# Altium integrated library Silicon Labs Clocks and Oscillators.IntLib: 678 symbols (part 39 of 45)
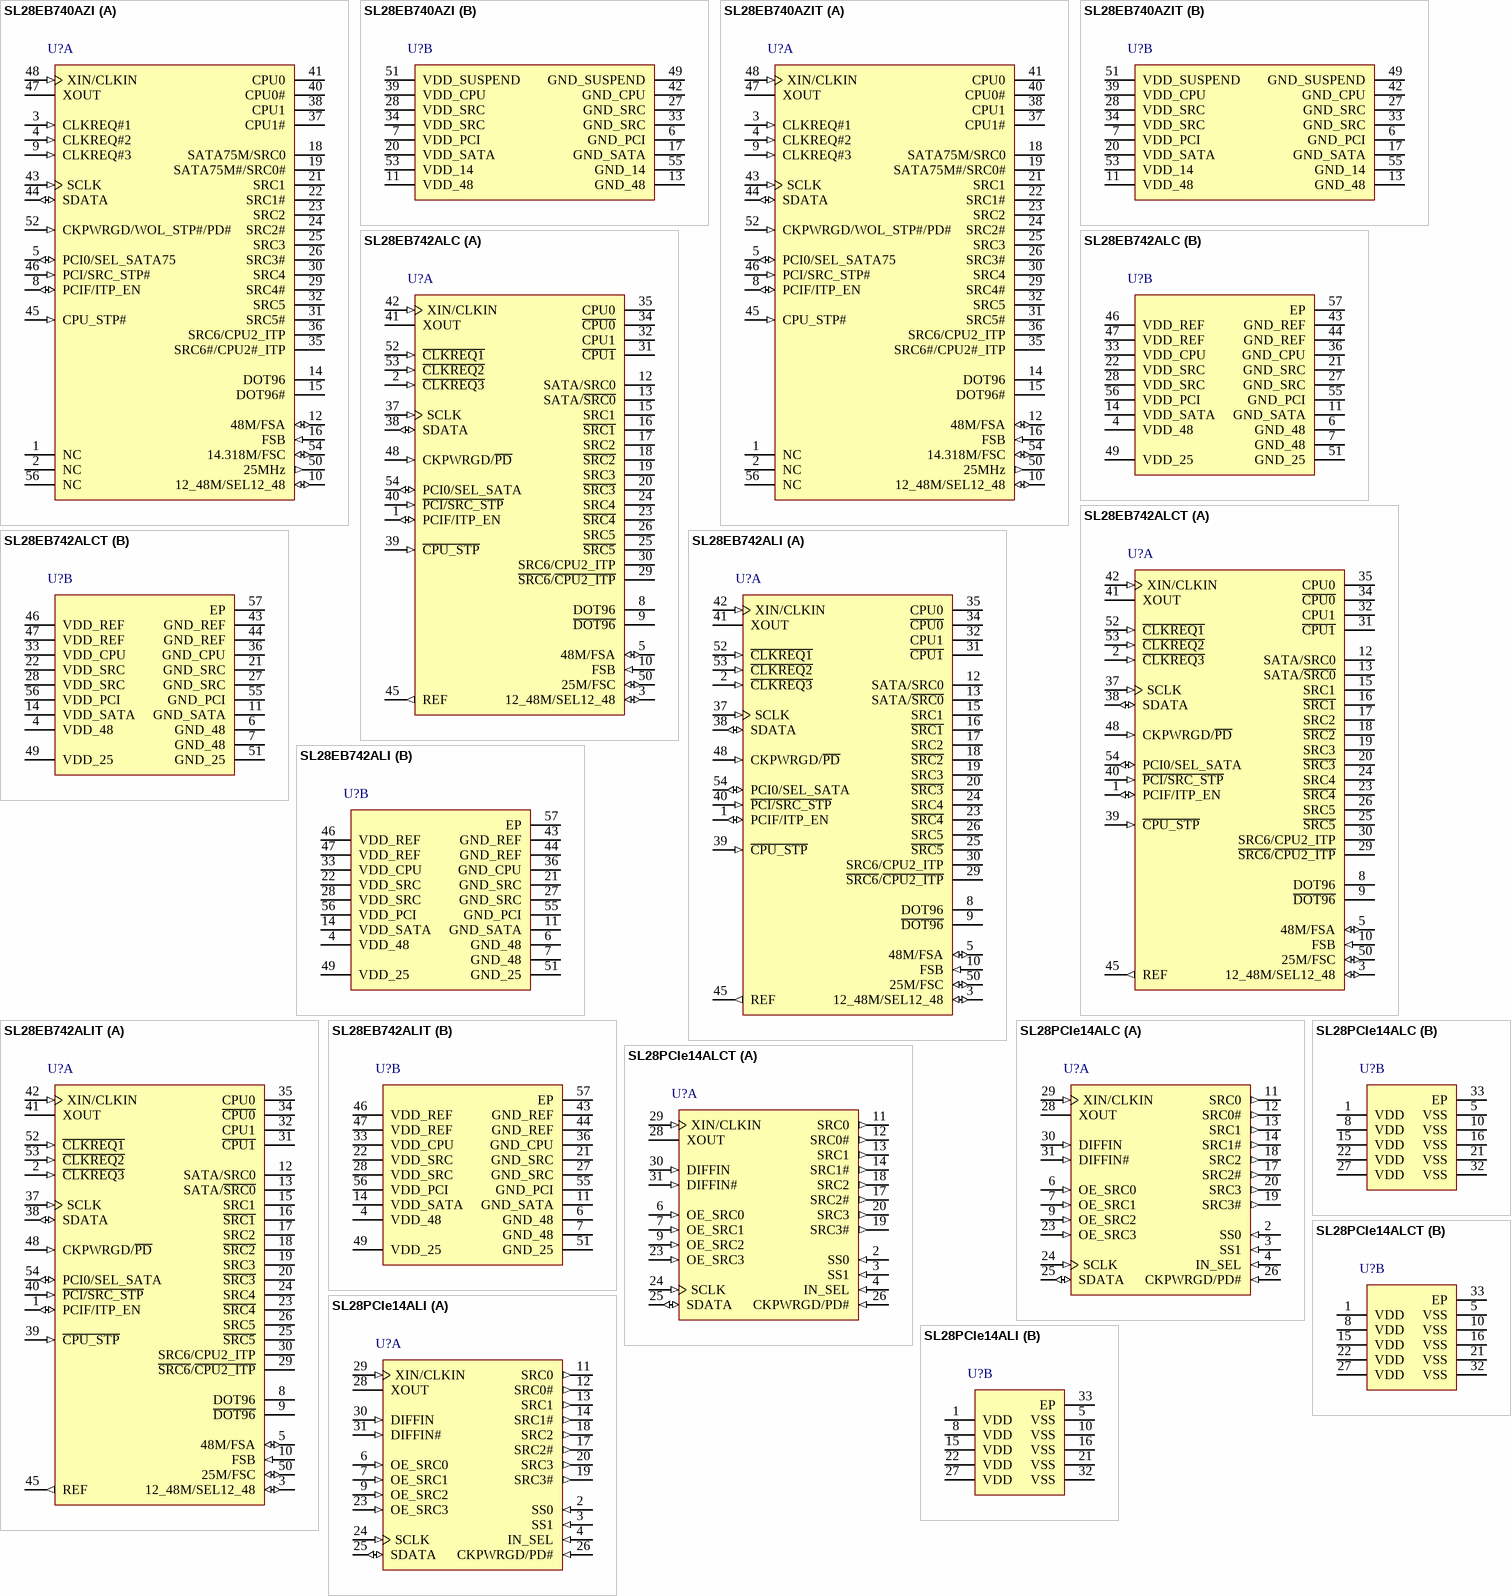
[diagram p82: symbols SL28EB740AZI to SL28PCIe14ALI]

## SL28EB742ALCT
designator U?
Intel(R) Cedarview Embedded Clock Generator, 3.3 V, 166 MHz Max Output, 0 to 70 degC, 56-pin QFN, Tape and Reel; Manufacturer: Silicon Labs; PartNumber: SL28EB742ALCT; Output Format: LVCMOS; HCSL; Output Frequency (MHz): 14.3; 33; 48; 96; 100; 133; 166; Phase Jitter (RMS): > 1 ps; Reference Inputs: 1; VDD: 3.3 V; Sub-Family: Clock Generators; DatasheetVersion: Rev. 0.1; PackageReference: QFN-56; PackageDescription: 56-Pin Quad-Flat No-Leads Package, Body 8 x 8 mm, Pitch 0.5 mm; Packing: Tape and Reel; Mounting Technology: Surface Mount; Code_JEDEC: MO-220; Code_IPC: J-STD-020; ComponentLink1Description: Manufacturer URL; ComponentLink1URL: http://www.silabs.com/; ComponentLink2Description: Datasheet; ComponentLink2URL: http://www.silabs.com/Support%20Documents/TechnicalDocs/SL28EB742.pdf; ComponentLink3Description: Package Specification; ComponentLink3URL: http://www.silabs.com/Support%20Documents/TechnicalDocs/SL28EB742.pdf
footprint SLAB-QFN-56-5900x5900TP_N (QFN, 56-Leads, Body 8x8mm, Pitch 0.5mm, Thermal Pad 5.9x5.9mm, IPC Medium Density)
footprint SLAB-QFN-56-5900x5900TP_L (QFN, 56-Leads, Body 8x8mm, Pitch 0.5mm, Thermal Pad 5.9x5.9mm, IPC High Density)
footprint SLAB-QFN-56-5900x5900TP_M (QFN, 56-Leads, Body 8x8mm, Pitch 0.5mm, Thermal Pad 5.9x5.9mm, IPC Low Density)
part A pins: 1 PCIF/ITP_EN (io) "33 MHz free running clock output/3.3 V LVTTL input to enable SRC6 or CPU2_ITP (sampled on the CKPWRGD assertion). 0 = SRC6, 1 = CPU2", 2 ~{CLKREQ3} (in) "Active low input pin enables SRC3 (internal 100 kohm pull-down).", 3 12_48M/SEL12_48 (io) "12/48 MHz Clock output/3.3 V-tolerance input for 12 MHz or 48 MHz selection (Sampled at CKPWRGD assertion) (internal 100 kohm pull-up). 0 = 48M, 1 = 12M", 5 48M/FSA (io) "Fixed 48 MHz clock output/3.3 V-tolerant input for CPU frequency selection (internal 100 kohm pull-down).", 8 DOT96 (hiz) "Fixed true 96 MHz clock output.", 9 ~{DOT96} (hiz) "Fixed complement 96 MHz clock output.", 10 FSB (in) "3.3 V-tolerant input for CPU frequency selection (internal 100 kohm pulldown).", 12 SATA/SRC0 (hiz) "100 MHz True differential serial reference clock.", 13 SATA/~{SRC0} (hiz) "100 MHz Complement differential serial reference clock.", 15 SRC1 (hiz) "100 MHz True differential serial reference clock.", 16 ~{SRC1} (hiz) "100 MHz Complement differential serial reference clock.", 17 SRC2 (hiz) "100 MHz True differential serial reference clock.", 18 ~{SRC2} (hiz) "100 MHz Complement differential serial reference clock.", 19 SRC3 (hiz) "100 MHz True differential serial reference clock.", 20 ~{SRC3} (hiz) "100 MHz Complement differential serial reference clock.", 23 ~{SRC4} (hiz) "100 MHz Complement differential serial reference clock.", 24 SRC4 (hiz) "100 MHz True differential serial reference clock.", 25 ~{SRC5} (hiz) "100 MHz Complement differential serial reference clock.", 26 SRC5 (hiz) "100 MHz True differential serial reference clock.", 29 ~{SRC6}/~{CPU2_ITP} (hiz) "Selectable complementary differential CPU or SRC clock output.", 30 SRC6/CPU2_ITP (hiz) "Selectable True differential CPU or SRC clock output.", 31 ~{CPU1} (hiz) "Complement differential CPU clock output.", 32 CPU1 (hiz) "True differential CPU clock output.", 34 ~{CPU0} (hiz) "Complement differential CPU clock output.", 35 CPU0 (hiz) "True differential CPU clock output.", 37 SCLK (in) "I2C compatible SCLOCK.", 38 SDATA (io) "I2C compatible SDATA.", 39 ~{CPU_STP} (in) "3.3 V-tolerant input for stopping CPU outputs (internal 100 kohm pull-up).", 40 ~{PCI/SRC_STP} (in) "3.3 V-tolerant input for stopping PCI and SRC outputs (internal 100 kohm pull-up).", 41 XOUT "14.318 MHz Crystal output, Float XOUT if using only CLKIN (Clock input).", 42 XIN/CLKIN (in) "14.318 MHz Crystal input or 3.3 V, 14.318 MHz Clock Input", 45 REF (out) "14.318 MHz reference output clock.", 48 CKPWRGD/~{PD} (in) "3.3 V LVTTL input. This pin is a level sensitive strobe used to determine when latch inputs are valid and are ready to be sampled. After latch inputs are latched, this pin becomes a real-time active low input for asserting (See Datasheet)", 50 25M/FSC (io) "Fixed 25 MHz clock output/3.3 V-tolerant input for CPU frequency selection (internal 100 kohm pull-up).", 52 ~{CLKREQ1} (in) "Active low input pin enables SRC1 (internal 100 kohm pull-up).", 53 ~{CLKREQ2} (in) "Active low input pin enables SRC2 (internal 100 kohm pull-up).", 54 PCI0/SEL_SATA (io) "33 MHz clock output/3.3 V LVTTL input to enable 100 MHz SATA (internal 100 kohm pull-up). 0 = SATA/SRC0 = SRC0 1 = SATA/SRC0 = SATA"
part B pins: 4 VDD_48 (power) "3.3 V Power supply", 6 GND_48 (power) "Ground.", 7 GND_48 (power) "Ground.", 11 GND_SATA (power) "Ground.", 14 VDD_SATA (power) "3.3 V Power supply.", 21 GND_SRC (power) "Ground.", 22 VDD_SRC (power) "3.3 V Power supply.", 27 GND_SRC (power) "Ground.", 28 VDD_SRC (power) "3.3 V Power supply.", 33 VDD_CPU (power) "3.3V Power supply.", 36 GND_CPU (power) "Ground.", 43 GND_REF (power) "Ground for REF clock.", 44 GND_REF (power) "Ground for REF clock.", 46 VDD_REF (power) "3.3 V Power Supply for REF clock.", 47 VDD_REF (power) "3.3 V Power Supply for REF clock.", 49 VDD_25 (power) "3.3 V Power supply.", 51 GND_25 (power) "Ground.", 55 GND_PCI (power) "Ground.", 56 VDD_PCI (power) "3.3 V Power supply.", 57 EP

## SL28EB742ALI
designator U?
Intel(R) Cedarview Embedded Clock Generator, 3.3 V, 166 MHz Max Output, -40 to 85 degC, 56-pin QFN; Manufacturer: Silicon Labs; PartNumber: SL28EB742ALI; Output Format: LVCMOS; HCSL; Output Frequency (MHz): 14.3; 33; 48; 96; 100; 133; 166; Reference Inputs: 1; VDD: 3.3 V; Sub-Family: Clock Generators; DatasheetVersion: Rev. 0.1; PackageReference: QFN-56; PackageDescription: 56-Pin Quad-Flat No-Leads Package, Body 8 x 8 mm, Pitch 0.5 mm; Supplier 1: Digi-Key; Supplier Part Number 1: 336-2264-ND; Supplier 2: Mouser; Supplier Part Number 2: 634-SL28EB742ALI; Mounting Technology: Surface Mount; Code_JEDEC: MO-220; Code_IPC: J-STD-020; ComponentLink1Description: Manufacturer URL; ComponentLink1URL: http://www.silabs.com/; ComponentLink2Description: Datasheet; ComponentLink2URL: http://www.silabs.com/Support%20Documents/TechnicalDocs/SL28EB742.pdf; ComponentLink3Description: Package Specification; ComponentLink3URL: http://www.silabs.com/Support%20Documents/TechnicalDocs/SL28EB742.pdf
footprint SLAB-QFN-56-5900x5900TP_N (QFN, 56-Leads, Body 8x8mm, Pitch 0.5mm, Thermal Pad 5.9x5.9mm, IPC Medium Density)
footprint SLAB-QFN-56-5900x5900TP_L (QFN, 56-Leads, Body 8x8mm, Pitch 0.5mm, Thermal Pad 5.9x5.9mm, IPC High Density)
footprint SLAB-QFN-56-5900x5900TP_M (QFN, 56-Leads, Body 8x8mm, Pitch 0.5mm, Thermal Pad 5.9x5.9mm, IPC Low Density)
part A pins: 1 PCIF/ITP_EN (io) "33 MHz free running clock output/3.3 V LVTTL input to enable SRC6 or CPU2_ITP (sampled on the CKPWRGD assertion). 0 = SRC6, 1 = CPU2", 2 ~{CLKREQ3} (in) "Active low input pin enables SRC3 (internal 100 kohm pull-down).", 3 12_48M/SEL12_48 (io) "12/48 MHz Clock output/3.3 V-tolerance input for 12 MHz or 48 MHz selection (Sampled at CKPWRGD assertion) (internal 100 kohm pull-up). 0 = 48M, 1 = 12M", 5 48M/FSA (io) "Fixed 48 MHz clock output/3.3 V-tolerant input for CPU frequency selection (internal 100 kohm pull-down).", 8 DOT96 (hiz) "Fixed true 96 MHz clock output.", 9 ~{DOT96} (hiz) "Fixed complement 96 MHz clock output.", 10 FSB (in) "3.3 V-tolerant input for CPU frequency selection (internal 100 kohm pulldown).", 12 SATA/SRC0 (hiz) "100 MHz True differential serial reference clock.", 13 SATA/~{SRC0} (hiz) "100 MHz Complement differential serial reference clock.", 15 SRC1 (hiz) "100 MHz True differential serial reference clock.", 16 ~{SRC1} (hiz) "100 MHz Complement differential serial reference clock.", 17 SRC2 (hiz) "100 MHz True differential serial reference clock.", 18 ~{SRC2} (hiz) "100 MHz Complement differential serial reference clock.", 19 SRC3 (hiz) "100 MHz True differential serial reference clock.", 20 ~{SRC3} (hiz) "100 MHz Complement differential serial reference clock.", 23 ~{SRC4} (hiz) "100 MHz Complement differential serial reference clock.", 24 SRC4 (hiz) "100 MHz True differential serial reference clock.", 25 ~{SRC5} (hiz) "100 MHz Complement differential serial reference clock.", 26 SRC5 (hiz) "100 MHz True differential serial reference clock.", 29 ~{SRC6}/~{CPU2_ITP} (hiz) "Selectable complementary differential CPU or SRC clock output.", 30 SRC6/CPU2_ITP (hiz) "Selectable True differential CPU or SRC clock output.", 31 ~{CPU1} (hiz) "Complement differential CPU clock output.", 32 CPU1 (hiz) "True differential CPU clock output.", 34 ~{CPU0} (hiz) "Complement differential CPU clock output.", 35 CPU0 (hiz) "True differential CPU clock output.", 37 SCLK (in) "I2C compatible SCLOCK.", 38 SDATA (io) "I2C compatible SDATA.", 39 ~{CPU_STP} (in) "3.3 V-tolerant input for stopping CPU outputs (internal 100 kohm pull-up).", 40 ~{PCI/SRC_STP} (in) "3.3 V-tolerant input for stopping PCI and SRC outputs (internal 100 kohm pull-up).", 41 XOUT "14.318 MHz Crystal output, Float XOUT if using only CLKIN (Clock input).", 42 XIN/CLKIN (in) "14.318 MHz Crystal input or 3.3 V, 14.318 MHz Clock Input", 45 REF (out) "14.318 MHz reference output clock.", 48 CKPWRGD/~{PD} (in) "3.3 V LVTTL input. This pin is a level sensitive strobe used to determine when latch inputs are valid and are ready to be sampled. After latch inputs are latched, this pin becomes a real-time active low input for asserting (See Datasheet)", 50 25M/FSC (io) "Fixed 25 MHz clock output/3.3 V-tolerant input for CPU frequency selection (internal 100 kohm pull-up).", 52 ~{CLKREQ1} (in) "Active low input pin enables SRC1 (internal 100 kohm pull-up).", 53 ~{CLKREQ2} (in) "Active low input pin enables SRC2 (internal 100 kohm pull-up).", 54 PCI0/SEL_SATA (io) "33 MHz clock output/3.3 V LVTTL input to enable 100 MHz SATA (internal 100 kohm pull-up). 0 = SATA/SRC0 = SRC0 1 = SATA/SRC0 = SATA"
part B pins: 4 VDD_48 (power) "3.3 V Power supply", 6 GND_48 (power) "Ground.", 7 GND_48 (power) "Ground.", 11 GND_SATA (power) "Ground.", 14 VDD_SATA (power) "3.3 V Power supply.", 21 GND_SRC (power) "Ground.", 22 VDD_SRC (power) "3.3 V Power supply.", 27 GND_SRC (power) "Ground.", 28 VDD_SRC (power) "3.3 V Power supply.", 33 VDD_CPU (power) "3.3V Power supply.", 36 GND_CPU (power) "Ground.", 43 GND_REF (power) "Ground for REF clock.", 44 GND_REF (power) "Ground for REF clock.", 46 VDD_REF (power) "3.3 V Power Supply for REF clock.", 47 VDD_REF (power) "3.3 V Power Supply for REF clock.", 49 VDD_25 (power) "3.3 V Power supply.", 51 GND_25 (power) "Ground.", 55 GND_PCI (power) "Ground.", 56 VDD_PCI (power) "3.3 V Power supply.", 57 EP

## SL28EB742ALIT
designator U?
Intel(R) Cedarview Embedded Clock Generator, 3.3 V, 166 MHz Max Output, -40 to 85 degC, 56-pin QFN, Tape and Reel; Manufacturer: Silicon Labs; PartNumber: SL28EB742ALIT; Output Format: LVCMOS; HCSL; Output Frequency (MHz): 14.3; 33; 48; 96; 100; 133; 166; Phase Jitter (RMS): > 1 ps; Reference Inputs: 1; VDD: 3.3 V; Sub-Family: Clock Generators; DatasheetVersion: Rev. 0.1; PackageReference: QFN-56; PackageDescription: 56-Pin Quad-Flat No-Leads Package, Body 8 x 8 mm, Pitch 0.5 mm; Packing: Tape and Reel; Mounting Technology: Surface Mount; Code_JEDEC: MO-220; Code_IPC: J-STD-020; ComponentLink1Description: Manufacturer URL; ComponentLink1URL: http://www.silabs.com/; ComponentLink2Description: Datasheet; ComponentLink2URL: http://www.silabs.com/Support%20Documents/TechnicalDocs/SL28EB742.pdf; ComponentLink3Description: Package Specification; ComponentLink3URL: http://www.silabs.com/Support%20Documents/TechnicalDocs/SL28EB742.pdf
footprint SLAB-QFN-56-5900x5900TP_N (QFN, 56-Leads, Body 8x8mm, Pitch 0.5mm, Thermal Pad 5.9x5.9mm, IPC Medium Density)
footprint SLAB-QFN-56-5900x5900TP_L (QFN, 56-Leads, Body 8x8mm, Pitch 0.5mm, Thermal Pad 5.9x5.9mm, IPC High Density)
footprint SLAB-QFN-56-5900x5900TP_M (QFN, 56-Leads, Body 8x8mm, Pitch 0.5mm, Thermal Pad 5.9x5.9mm, IPC Low Density)
part A pins: 1 PCIF/ITP_EN (io) "33 MHz free running clock output/3.3 V LVTTL input to enable SRC6 or CPU2_ITP (sampled on the CKPWRGD assertion). 0 = SRC6, 1 = CPU2", 2 ~{CLKREQ3} (in) "Active low input pin enables SRC3 (internal 100 kohm pull-down).", 3 12_48M/SEL12_48 (io) "12/48 MHz Clock output/3.3 V-tolerance input for 12 MHz or 48 MHz selection (Sampled at CKPWRGD assertion) (internal 100 kohm pull-up). 0 = 48M, 1 = 12M", 5 48M/FSA (io) "Fixed 48 MHz clock output/3.3 V-tolerant input for CPU frequency selection (internal 100 kohm pull-down).", 8 DOT96 (hiz) "Fixed true 96 MHz clock output.", 9 ~{DOT96} (hiz) "Fixed complement 96 MHz clock output.", 10 FSB (in) "3.3 V-tolerant input for CPU frequency selection (internal 100 kohm pulldown).", 12 SATA/SRC0 (hiz) "100 MHz True differential serial reference clock.", 13 SATA/~{SRC0} (hiz) "100 MHz Complement differential serial reference clock.", 15 SRC1 (hiz) "100 MHz True differential serial reference clock.", 16 ~{SRC1} (hiz) "100 MHz Complement differential serial reference clock.", 17 SRC2 (hiz) "100 MHz True differential serial reference clock.", 18 ~{SRC2} (hiz) "100 MHz Complement differential serial reference clock.", 19 SRC3 (hiz) "100 MHz True differential serial reference clock.", 20 ~{SRC3} (hiz) "100 MHz Complement differential serial reference clock.", 23 ~{SRC4} (hiz) "100 MHz Complement differential serial reference clock.", 24 SRC4 (hiz) "100 MHz True differential serial reference clock.", 25 ~{SRC5} (hiz) "100 MHz Complement differential serial reference clock.", 26 SRC5 (hiz) "100 MHz True differential serial reference clock.", 29 ~{SRC6}/~{CPU2_ITP} (hiz) "Selectable complementary differential CPU or SRC clock output.", 30 SRC6/CPU2_ITP (hiz) "Selectable True differential CPU or SRC clock output.", 31 ~{CPU1} (hiz) "Complement differential CPU clock output.", 32 CPU1 (hiz) "True differential CPU clock output.", 34 ~{CPU0} (hiz) "Complement differential CPU clock output.", 35 CPU0 (hiz) "True differential CPU clock output.", 37 SCLK (in) "I2C compatible SCLOCK.", 38 SDATA (io) "I2C compatible SDATA.", 39 ~{CPU_STP} (in) "3.3 V-tolerant input for stopping CPU outputs (internal 100 kohm pull-up).", 40 ~{PCI/SRC_STP} (in) "3.3 V-tolerant input for stopping PCI and SRC outputs (internal 100 kohm pull-up).", 41 XOUT "14.318 MHz Crystal output, Float XOUT if using only CLKIN (Clock input).", 42 XIN/CLKIN (in) "14.318 MHz Crystal input or 3.3 V, 14.318 MHz Clock Input", 45 REF (out) "14.318 MHz reference output clock.", 48 CKPWRGD/~{PD} (in) "3.3 V LVTTL input. This pin is a level sensitive strobe used to determine when latch inputs are valid and are ready to be sampled. After latch inputs are latched, this pin becomes a real-time active low input for asserting (See Datasheet)", 50 25M/FSC (io) "Fixed 25 MHz clock output/3.3 V-tolerant input for CPU frequency selection (internal 100 kohm pull-up).", 52 ~{CLKREQ1} (in) "Active low input pin enables SRC1 (internal 100 kohm pull-up).", 53 ~{CLKREQ2} (in) "Active low input pin enables SRC2 (internal 100 kohm pull-up).", 54 PCI0/SEL_SATA (io) "33 MHz clock output/3.3 V LVTTL input to enable 100 MHz SATA (internal 100 kohm pull-up). 0 = SATA/SRC0 = SRC0 1 = SATA/SRC0 = SATA"
part B pins: 4 VDD_48 (power) "3.3 V Power supply", 6 GND_48 (power) "Ground.", 7 GND_48 (power) "Ground.", 11 GND_SATA (power) "Ground.", 14 VDD_SATA (power) "3.3 V Power supply.", 21 GND_SRC (power) "Ground.", 22 VDD_SRC (power) "3.3 V Power supply.", 27 GND_SRC (power) "Ground.", 28 VDD_SRC (power) "3.3 V Power supply.", 33 VDD_CPU (power) "3.3V Power supply.", 36 GND_CPU (power) "Ground.", 43 GND_REF (power) "Ground for REF clock.", 44 GND_REF (power) "Ground for REF clock.", 46 VDD_REF (power) "3.3 V Power Supply for REF clock.", 47 VDD_REF (power) "3.3 V Power Supply for REF clock.", 49 VDD_25 (power) "3.3 V Power supply.", 51 GND_25 (power) "Ground.", 55 GND_PCI (power) "Ground.", 56 VDD_PCI (power) "3.3 V Power supply.", 57 EP

## SL28PCIe14ALC
designator U?
PCI-Express Gen 2 & Gen 3 Clock Generator & Fan-out Buffer with EProClock(R) Technology, 3.3 V, 100 MHz Output, -40 to 85 degC, 32-pin QFN; Manufacturer: Silicon Labs; PartNumber: SL28PCIe14ALC; Output Format: HCSL; Output Frequency (MHz): 100; Reference Inputs: 2; VDD: 3.3 V; Sub-Family: Clock Generators; DatasheetVersion: Rev. AA; PackageReference: QFN-32; PackageDescription: 32-Pin Quad-Flat No-Leads Package, Body 5 x 5 mm, Pitch 0.5 mm; Supplier 1: Digi-Key; Supplier Part Number 1: SL28PCIE14ALC-ND; Supplier 2: Mouser; Supplier Part Number 2: 634-SL28PCIE14ALC; Mounting Technology: Surface Mount; ComponentLink1Description: Manufacturer URL; ComponentLink1URL: http://www.silabs.com/; ComponentLink2Description: Datasheet; ComponentLink2URL: http://www.silabs.com/Support%20Documents/TechnicalDocs/SL28PCIe14.pdf; ComponentLink3Description: Package Specification; ComponentLink3URL: http://www.silabs.com/Support%20Documents/TechnicalDocs/SL28PCIe10.pdf
footprint SLAB-QFN-32-3300x3300TP_B_N (QFN, 32-Leads, Body 5.1x5.1mm, Pitch 0.5mm, Thermal Pad 3.3x3.3mm, IPC Medium Density)
footprint SLAB-QFN-32-3300x3300TP_B_L (QFN, 32-Leads, Body 5.1x5.1mm, Pitch 0.5mm, Thermal Pad 3.3x3.3mm, IPC High Density)
footprint SLAB-QFN-32-3300x3300TP_B_M (QFN, 32-Leads, Body 5.1x5.1mm, Pitch 0.5mm, Thermal Pad 3.3x3.3mm, IPC Low Density)
part A pins: 2 SS0 (in) "Freqency/Spread Control. Default SS[1:0] =00. (internal 100K-ohm pull-down)", 3 SS1 (in) "Freqency/Spread Control. Default SS[1:0] =00. (internal 100K-ohm pull-down)", 4 IN_SEL (in) "3.3V input to select between crystal input or external differential buffer input mode. 0 = Synthesizer mode, 1=Fan-out Buffer mode. (internal 100K-ohm pull-up; switching is not glitchless)", 6 OE_SRC0 (in) "3.3V input to enabled SRC0 clock. (internal 100K-ohm pull-up)", 7 OE_SRC1 (in) "3.3V input to enabled SRC1 clock. (internal 100K-ohm pull-up)", 9 OE_SRC2 (in) "3.3V input to enabled SRC2 clock. (internal 100K-ohm pull-up)", 11 SRC0 (out) "100MHz True differential serial reference clock", 12 SRC0# (out) "100MHz Complement differential serial reference clock", 13 SRC1 (out) "100MHz True differential serial reference clock", 14 SRC1# (out) "100MHz Complement differential serial reference clock", 17 SRC2# (out) "100MHz Complement differential serial reference clock", 18 SRC2 (out) "100MHz True differential serial reference clock", 19 SRC3# (out) "100MHz Complement differential serial reference clock", 20 SRC3 (out) "100MHz True differential serial reference clock", 23 OE_SRC3 (in) "3.3V input to enabled SRC3 clock. (internal 100K-ohm pull-up)", 24 SCLK (in) "SMBus compatible SCLOCK", 25 SDATA (io) "SMBus compatible SDATA", 26 CKPWRGD/PD# (in) "3.3V LVTTL input. This pin is a level sensitive strobe used to latch the SS[1:0]. After CKPWRGD (active HIGH) assertion, this pin becomes a real-time input for asserting power down (active LOW)", 28 XOUT "25.00MHz Crystal output, Float XOUT if using only CLKIN (Clock input)", 29 XIN/CLKIN (in) "25.00MHz Crystal input or 3.3V, 25MHz Clock Input", 30 DIFFIN (in) "True differential serial reference clock input", 31 DIFFIN# (in) "Complement differential serial reference clock"
part B pins: 1 VDD (power) "3.3V Power Supply", 5 VSS (power) "Ground", 8 VDD (power) "3.3V Power Supply", 10 VSS (power) "Ground", 15 VDD (power) "3.3V Power Supply", 16 VSS (power) "Ground", 21 VSS (power) "Ground", 22 VDD (power) "3.3V Power Supply", 27 VDD (power) "3.3V Power Supply", 32 VSS (power) "Ground", 33 EP

## SL28PCIe14ALCT
designator U?
PCI-Express Gen 2 & Gen 3 Clock Generator & Fan-out Buffer with EProClock(R) Technology, 3.3 V, 100 MHz Output, 0 to 85 degC, 32-pin QFN, Tape and Reel; Manufacturer: Silicon Labs; PartNumber: SL28PCIe14ALCT; Output Format: HCSL; Output Frequency (MHz): 100; Phase Jitter (RMS): 1 ps; Reference Inputs: 2; VDD: 3.3 V; Sub-Family: Clock Generators; DatasheetVersion: Rev. AA; PackageReference: QFN-32; PackageDescription: 32-Pin Quad-Flat No-Leads Package, Body 5 x 5 mm, Pitch 0.5 mm; Supplier 1: Digi-Key; Supplier Part Number 1: SL28PCIE14ALCT-ND; Supplier 2: Mouser; Supplier Part Number 2: 634-SL28PCIE14ALCT; Packing: Tape and Reel; Mounting Technology: Surface Mount; ComponentLink1Description: Manufacturer URL; ComponentLink1URL: http://www.silabs.com/; ComponentLink2Description: Datasheet; ComponentLink2URL: http://www.silabs.com/Support%20Documents/TechnicalDocs/SL28PCIe14.pdf; ComponentLink3Description: Package Specification; ComponentLink3URL: http://www.silabs.com/Support%20Documents/TechnicalDocs/SL28PCIe10.pdf
footprint SLAB-QFN-32-3300x3300TP_B_N (QFN, 32-Leads, Body 5.1x5.1mm, Pitch 0.5mm, Thermal Pad 3.3x3.3mm, IPC Medium Density)
footprint SLAB-QFN-32-3300x3300TP_B_L (QFN, 32-Leads, Body 5.1x5.1mm, Pitch 0.5mm, Thermal Pad 3.3x3.3mm, IPC High Density)
footprint SLAB-QFN-32-3300x3300TP_B_M (QFN, 32-Leads, Body 5.1x5.1mm, Pitch 0.5mm, Thermal Pad 3.3x3.3mm, IPC Low Density)
part A pins: 2 SS0 (in) "Freqency/Spread Control. Default SS[1:0] =00. (internal 100K-ohm pull-down)", 3 SS1 (in) "Freqency/Spread Control. Default SS[1:0] =00. (internal 100K-ohm pull-down)", 4 IN_SEL (in) "3.3V input to select between crystal input or external differential buffer input mode. 0 = Synthesizer mode, 1=Fan-out Buffer mode. (internal 100K-ohm pull-up; switching is not glitchless)", 6 OE_SRC0 (in) "3.3V input to enabled SRC0 clock. (internal 100K-ohm pull-up)", 7 OE_SRC1 (in) "3.3V input to enabled SRC1 clock. (internal 100K-ohm pull-up)", 9 OE_SRC2 (in) "3.3V input to enabled SRC2 clock. (internal 100K-ohm pull-up)", 11 SRC0 (out) "100MHz True differential serial reference clock", 12 SRC0# (out) "100MHz Complement differential serial reference clock", 13 SRC1 (out) "100MHz True differential serial reference clock", 14 SRC1# (out) "100MHz Complement differential serial reference clock", 17 SRC2# (out) "100MHz Complement differential serial reference clock", 18 SRC2 (out) "100MHz True differential serial reference clock", 19 SRC3# (out) "100MHz Complement differential serial reference clock", 20 SRC3 (out) "100MHz True differential serial reference clock", 23 OE_SRC3 (in) "3.3V input to enabled SRC3 clock. (internal 100K-ohm pull-up)", 24 SCLK (in) "SMBus compatible SCLOCK", 25 SDATA (io) "SMBus compatible SDATA", 26 CKPWRGD/PD# (in) "3.3V LVTTL input. This pin is a level sensitive strobe used to latch the SS[1:0]. After CKPWRGD (active HIGH) assertion, this pin becomes a real-time input for asserting power down (active LOW)", 28 XOUT "25.00MHz Crystal output, Float XOUT if using only CLKIN (Clock input)", 29 XIN/CLKIN (in) "25.00MHz Crystal input or 3.3V, 25MHz Clock Input", 30 DIFFIN (in) "True differential serial reference clock input", 31 DIFFIN# (in) "Complement differential serial reference clock"
part B pins: 1 VDD (power) "3.3V Power Supply", 5 VSS (power) "Ground", 8 VDD (power) "3.3V Power Supply", 10 VSS (power) "Ground", 15 VDD (power) "3.3V Power Supply", 16 VSS (power) "Ground", 21 VSS (power) "Ground", 22 VDD (power) "3.3V Power Supply", 27 VDD (power) "3.3V Power Supply", 32 VSS (power) "Ground", 33 EP

## SL28PCIe14ALI
designator U?
PCI-Express Gen 2 & Gen 3 Clock Generator & Fan-out Buffer with EProClock(R) Technology, 3.3 V, 100 MHz Output, -40 to 85 degC, 32-pin QFN; Manufacturer: Silicon Labs; PartNumber: SL28PCIe14ALI; Output Format: HCSL; Output Frequency (MHz): 100; Reference Inputs: 2; VDD: 3.3 V; Sub-Family: Clock Generators; DatasheetVersion: Rev. AA; PackageReference: QFN-32; PackageDescription: 32-Pin Quad-Flat No-Leads Package, Body 5 x 5 mm, Pitch 0.5 mm; Supplier 1: Digi-Key; Supplier Part Number 1: SL28PCIE14ALI-ND; Supplier 2: Mouser; Supplier Part Number 2: 634-SL28PCIE14ALI; Mounting Technology: Surface Mount; ComponentLink1Description: Manufacturer URL; ComponentLink1URL: http://www.silabs.com/; ComponentLink2Description: Datasheet; ComponentLink2URL: http://www.silabs.com/Support%20Documents/TechnicalDocs/SL28PCIe14.pdf; ComponentLink3Description: Package Specification; ComponentLink3URL: http://www.silabs.com/Support%20Documents/TechnicalDocs/SL28PCIe10.pdf
footprint SLAB-QFN-32-3300x3300TP_B_N (QFN, 32-Leads, Body 5.1x5.1mm, Pitch 0.5mm, Thermal Pad 3.3x3.3mm, IPC Medium Density)
footprint SLAB-QFN-32-3300x3300TP_B_L (QFN, 32-Leads, Body 5.1x5.1mm, Pitch 0.5mm, Thermal Pad 3.3x3.3mm, IPC High Density)
footprint SLAB-QFN-32-3300x3300TP_B_M (QFN, 32-Leads, Body 5.1x5.1mm, Pitch 0.5mm, Thermal Pad 3.3x3.3mm, IPC Low Density)
part A pins: 2 SS0 (in) "Freqency/Spread Control. Default SS[1:0] =00. (internal 100K-ohm pull-down)", 3 SS1 (in) "Freqency/Spread Control. Default SS[1:0] =00. (internal 100K-ohm pull-down)", 4 IN_SEL (in) "3.3V input to select between crystal input or external differential buffer input mode. 0 = Synthesizer mode, 1=Fan-out Buffer mode. (internal 100K-ohm pull-up; switching is not glitchless)", 6 OE_SRC0 (in) "3.3V input to enabled SRC0 clock. (internal 100K-ohm pull-up)", 7 OE_SRC1 (in) "3.3V input to enabled SRC1 clock. (internal 100K-ohm pull-up)", 9 OE_SRC2 (in) "3.3V input to enabled SRC2 clock. (internal 100K-ohm pull-up)", 11 SRC0 (out) "100MHz True differential serial reference clock", 12 SRC0# (out) "100MHz Complement differential serial reference clock", 13 SRC1 (out) "100MHz True differential serial reference clock", 14 SRC1# (out) "100MHz Complement differential serial reference clock", 17 SRC2# (out) "100MHz Complement differential serial reference clock", 18 SRC2 (out) "100MHz True differential serial reference clock", 19 SRC3# (out) "100MHz Complement differential serial reference clock", 20 SRC3 (out) "100MHz True differential serial reference clock", 23 OE_SRC3 (in) "3.3V input to enabled SRC3 clock. (internal 100K-ohm pull-up)", 24 SCLK (in) "SMBus compatible SCLOCK", 25 SDATA (io) "SMBus compatible SDATA", 26 CKPWRGD/PD# (in) "3.3V LVTTL input. This pin is a level sensitive strobe used to latch the SS[1:0]. After CKPWRGD (active HIGH) assertion, this pin becomes a real-time input for asserting power down (active LOW)", 28 XOUT "25.00MHz Crystal output, Float XOUT if using only CLKIN (Clock input)", 29 XIN/CLKIN (in) "25.00MHz Crystal input or 3.3V, 25MHz Clock Input", 30 DIFFIN (in) "True differential serial reference clock input", 31 DIFFIN# (in) "Complement differential serial reference clock"
part B pins: 1 VDD (power) "3.3V Power Supply", 5 VSS (power) "Ground", 8 VDD (power) "3.3V Power Supply", 10 VSS (power) "Ground", 15 VDD (power) "3.3V Power Supply", 16 VSS (power) "Ground", 21 VSS (power) "Ground", 22 VDD (power) "3.3V Power Supply", 27 VDD (power) "3.3V Power Supply", 32 VSS (power) "Ground", 33 EP

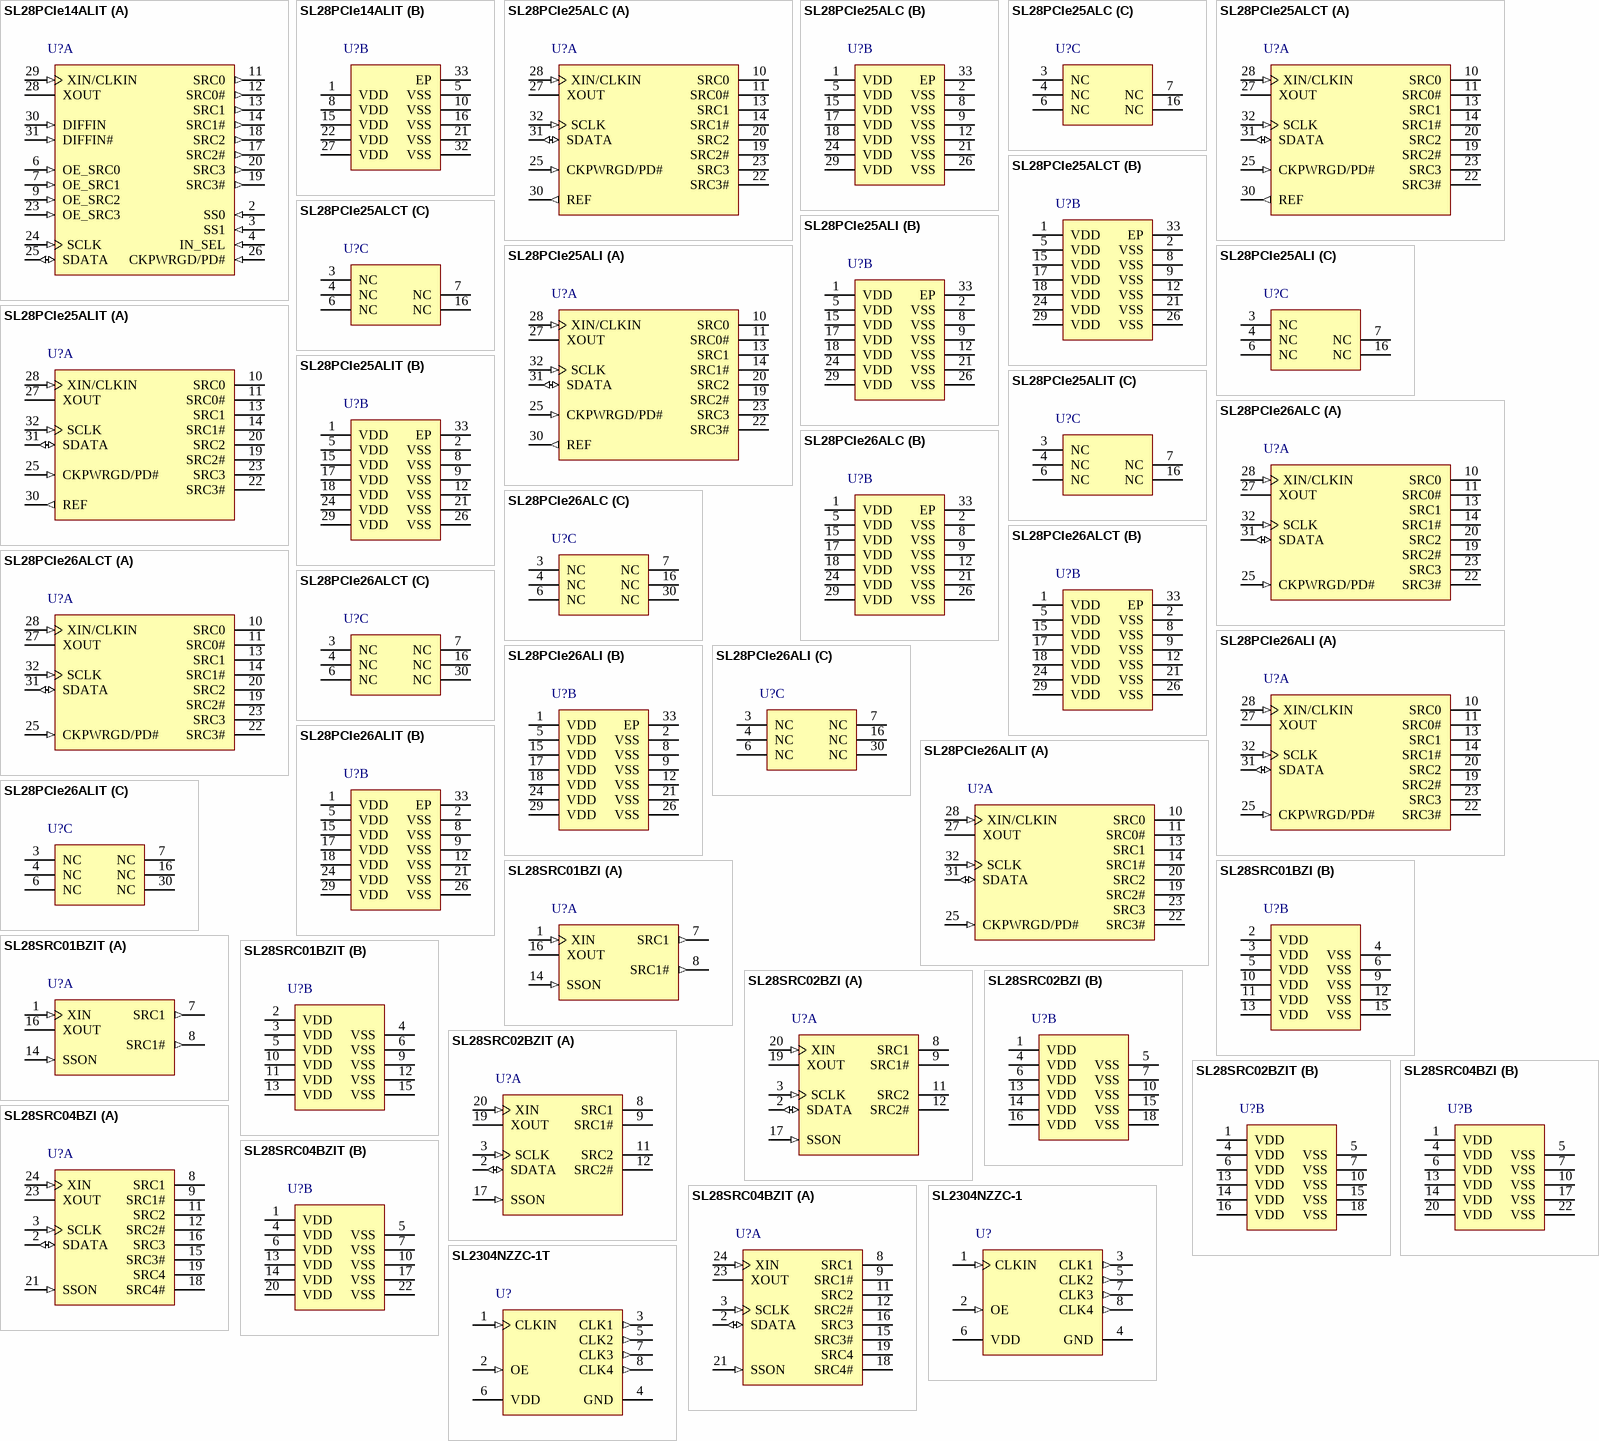
[diagram p38: symbols SL28PCIe14ALIT to SL2304NZZC-1T]

## SL28PCIe14ALIT
designator U?
PCI-Express Gen 2 & Gen 3 Clock Generator & Fan-out Buffer with EProClock(R) Technology, 3.3 V, 100 MHz Output, -40 to 85 degC, 32-pin QFN, Tape and Reel; Manufacturer: Silicon Labs; PartNumber: SL28PCIe14ALIT; Output Format: HCSL; Output Frequency (MHz): 100; Phase Jitter (RMS): 1 ps; Reference Inputs: 2; VDD: 3.3 V; Sub-Family: Clock Generators; DatasheetVersion: Rev. AA; PackageReference: QFN-32; PackageDescription: 32-Pin Quad-Flat No-Leads Package, Body 5 x 5 mm, Pitch 0.5 mm; Supplier 1: Digi-Key; Supplier Part Number 1: SL28PCIE14ALIT-ND; Supplier 2: Mouser; Supplier Part Number 2: 634-SL28PCIE14ALIT; Packing: Tape and Reel; Mounting Technology: Surface Mount; ComponentLink1Description: Manufacturer URL; ComponentLink1URL: http://www.silabs.com/; ComponentLink2Description: Datasheet; ComponentLink2URL: http://www.silabs.com/Support%20Documents/TechnicalDocs/SL28PCIe14.pdf; ComponentLink3Description: Package Specification; ComponentLink3URL: http://www.silabs.com/Support%20Documents/TechnicalDocs/SL28PCIe10.pdf
footprint SLAB-QFN-32-3300x3300TP_B_N (QFN, 32-Leads, Body 5.1x5.1mm, Pitch 0.5mm, Thermal Pad 3.3x3.3mm, IPC Medium Density)
footprint SLAB-QFN-32-3300x3300TP_B_L (QFN, 32-Leads, Body 5.1x5.1mm, Pitch 0.5mm, Thermal Pad 3.3x3.3mm, IPC High Density)
footprint SLAB-QFN-32-3300x3300TP_B_M (QFN, 32-Leads, Body 5.1x5.1mm, Pitch 0.5mm, Thermal Pad 3.3x3.3mm, IPC Low Density)
part A pins: 2 SS0 (in) "Freqency/Spread Control. Default SS[1:0] =00. (internal 100K-ohm pull-down)", 3 SS1 (in) "Freqency/Spread Control. Default SS[1:0] =00. (internal 100K-ohm pull-down)", 4 IN_SEL (in) "3.3V input to select between crystal input or external differential buffer input mode. 0 = Synthesizer mode, 1=Fan-out Buffer mode. (internal 100K-ohm pull-up; switching is not glitchless)", 6 OE_SRC0 (in) "3.3V input to enabled SRC0 clock. (internal 100K-ohm pull-up)", 7 OE_SRC1 (in) "3.3V input to enabled SRC1 clock. (internal 100K-ohm pull-up)", 9 OE_SRC2 (in) "3.3V input to enabled SRC2 clock. (internal 100K-ohm pull-up)", 11 SRC0 (out) "100MHz True differential serial reference clock", 12 SRC0# (out) "100MHz Complement differential serial reference clock", 13 SRC1 (out) "100MHz True differential serial reference clock", 14 SRC1# (out) "100MHz Complement differential serial reference clock", 17 SRC2# (out) "100MHz Complement differential serial reference clock", 18 SRC2 (out) "100MHz True differential serial reference clock", 19 SRC3# (out) "100MHz Complement differential serial reference clock", 20 SRC3 (out) "100MHz True differential serial reference clock", 23 OE_SRC3 (in) "3.3V input to enabled SRC3 clock. (internal 100K-ohm pull-up)", 24 SCLK (in) "SMBus compatible SCLOCK", 25 SDATA (io) "SMBus compatible SDATA", 26 CKPWRGD/PD# (in) "3.3V LVTTL input. This pin is a level sensitive strobe used to latch the SS[1:0]. After CKPWRGD (active HIGH) assertion, this pin becomes a real-time input for asserting power down (active LOW)", 28 XOUT "25.00MHz Crystal output, Float XOUT if using only CLKIN (Clock input)", 29 XIN/CLKIN (in) "25.00MHz Crystal input or 3.3V, 25MHz Clock Input", 30 DIFFIN (in) "True differential serial reference clock input", 31 DIFFIN# (in) "Complement differential serial reference clock"
part B pins: 1 VDD (power) "3.3V Power Supply", 5 VSS (power) "Ground", 8 VDD (power) "3.3V Power Supply", 10 VSS (power) "Ground", 15 VDD (power) "3.3V Power Supply", 16 VSS (power) "Ground", 21 VSS (power) "Ground", 22 VDD (power) "3.3V Power Supply", 27 VDD (power) "3.3V Power Supply", 32 VSS (power) "Ground", 33 EP

## SL28PCIe25ALC
designator U?
EProClock(R) PCI Express Gen 2 & Gen 3 Generator, 3.3 V, 100 MHz Max Output, 0 to 85 degC, 32-pin QFN; Manufacturer: Silicon Labs; PartNumber: SL28PCIe25ALC; Output Format: LVCMOS; HCSL; Output Frequency (MHz): 25; 100; Reference Inputs: 1; VDD: 3.3 V; Sub-Family: Clock Generators; DatasheetVersion: Rev. AA; PackageReference: QFN-32; PackageDescription: 32-Pin Quad-Flat No-Leads Package, Body 5 x 5 mm, Pitch 0.5 mm; Supplier 1: Digi-Key; Supplier Part Number 1: SL28PCIE25ALC-ND; Supplier 2: Mouser; Supplier Part Number 2: 634-SL28PCIE25ALC; Mounting Technology: Surface Mount; ComponentLink1Description: Manufacturer URL; ComponentLink1URL: http://www.silabs.com/; ComponentLink2Description: Datasheet; ComponentLink2URL: http://www.silabs.com/Support%20Documents/TechnicalDocs/SL28PCIe25.pdf; ComponentLink3Description: Package Specification; ComponentLink3URL: http://www.silabs.com/Support%20Documents/TechnicalDocs/SL28PCIe10.pdf
footprint SLAB-QFN-32-3300x3300TP_B_N (QFN, 32-Leads, Body 5.1x5.1mm, Pitch 0.5mm, Thermal Pad 3.3x3.3mm, IPC Medium Density)
footprint SLAB-QFN-32-3300x3300TP_B_L (QFN, 32-Leads, Body 5.1x5.1mm, Pitch 0.5mm, Thermal Pad 3.3x3.3mm, IPC High Density)
footprint SLAB-QFN-32-3300x3300TP_B_M (QFN, 32-Leads, Body 5.1x5.1mm, Pitch 0.5mm, Thermal Pad 3.3x3.3mm, IPC Low Density)
part A pins: 10 SRC0 (hiz) "100MHz True differential serial reference clock", 11 SRC0# (hiz) "100MHz Complement differential serial reference clock", 13 SRC1 (hiz) "100MHz True differential serial reference clock", 14 SRC1# (hiz) "100MHz Complement differential serial reference clock", 19 SRC2# (hiz) "100MHz Complement differential serial reference clock", 20 SRC2 (hiz) "100MHz True differential serial reference clock", 22 SRC3# (hiz) "100MHz Complement differential serial reference clock", 23 SRC3 (hiz) "100MHz True differential serial reference clock", 25 CKPWRGD/PD# (in) "3.3V LVTTL input pin. When PD# is asserted low, the device will power down.", 27 XOUT "25MHz Crystal output, Float XOUT if using CLKIN (Clock Input)", 28 XIN/CLKIN (in) "25MHz Crystal input or 3.3V, 25MHz Clock input", 30 REF (out) "3.3V, 25MHz clock output.", 31 SDATA (io) "SMBus compatible SDATA", 32 SCLK (in) "SMBus compatible SCLOCK"
part B pins: 1 VDD (power) "3.3V Power Supply", 2 VSS (power) "Ground", 5 VDD (power) "3.3V Power Supply", 8 VSS (power) "Ground", 9 VSS (power) "Ground", 12 VSS (power) "Ground", 15 VDD (power) "3.3V Power Supply", 17 VDD (power) "3.3V Power Supply", 18 VDD (power) "3.3V Power Supply", 21 VSS (power) "Ground", 24 VDD (power) "3.3V Power Supply", 26 VSS (power) "Ground", 29 VDD (power) "3.3V Power Supply", 33 EP
part C pins: 3 NC "No Connect.", 4 NC "No Connect.", 6 NC "No Connect.", 7 NC "No Connect.", 16 NC "No Connect."

## SL28PCIe25ALCT
designator U?
EProClock(R) PCI Express Gen 2 & Gen 3 Generator, 3.3 V, 100 MHz Max Output, 0 to 85 degC, 32-pin QFN, Tape and Reel; Manufacturer: Silicon Labs; PartNumber: SL28PCIe25ALCT; Output Format: LVCMOS; HCSL; Output Frequency (MHz): 25; 100; Phase Jitter (RMS): 3.1 ps; Reference Inputs: 1; VDD: 3.3 V; Sub-Family: Clock Generators; DatasheetVersion: Rev. AA; PackageReference: QFN-32; PackageDescription: 32-Pin Quad-Flat No-Leads Package, Body 5 x 5 mm, Pitch 0.5 mm; Supplier 1: Digi-Key; Supplier Part Number 1: SL28PCIE25ALCT-ND; Supplier 2: Mouser; Supplier Part Number 2: 634-SL28PCIE25ALCT; Packing: Tape and Reel; Mounting Technology: Surface Mount; ComponentLink1Description: Manufacturer URL; ComponentLink1URL: http://www.silabs.com/; ComponentLink2Description: Datasheet; ComponentLink2URL: http://www.silabs.com/Support%20Documents/TechnicalDocs/SL28PCIe25.pdf; ComponentLink3Description: Package Specification; ComponentLink3URL: http://www.silabs.com/Support%20Documents/TechnicalDocs/SL28PCIe10.pdf
footprint SLAB-QFN-32-3300x3300TP_B_N (QFN, 32-Leads, Body 5.1x5.1mm, Pitch 0.5mm, Thermal Pad 3.3x3.3mm, IPC Medium Density)
footprint SLAB-QFN-32-3300x3300TP_B_L (QFN, 32-Leads, Body 5.1x5.1mm, Pitch 0.5mm, Thermal Pad 3.3x3.3mm, IPC High Density)
footprint SLAB-QFN-32-3300x3300TP_B_M (QFN, 32-Leads, Body 5.1x5.1mm, Pitch 0.5mm, Thermal Pad 3.3x3.3mm, IPC Low Density)
part A pins: 10 SRC0 (hiz) "100MHz True differential serial reference clock", 11 SRC0# (hiz) "100MHz Complement differential serial reference clock", 13 SRC1 (hiz) "100MHz True differential serial reference clock", 14 SRC1# (hiz) "100MHz Complement differential serial reference clock", 19 SRC2# (hiz) "100MHz Complement differential serial reference clock", 20 SRC2 (hiz) "100MHz True differential serial reference clock", 22 SRC3# (hiz) "100MHz Complement differential serial reference clock", 23 SRC3 (hiz) "100MHz True differential serial reference clock", 25 CKPWRGD/PD# (in) "3.3V LVTTL input pin. When PD# is asserted low, the device will power down.", 27 XOUT "25MHz Crystal output, Float XOUT if using CLKIN (Clock Input)", 28 XIN/CLKIN (in) "25MHz Crystal input or 3.3V, 25MHz Clock input", 30 REF (out) "3.3V, 25MHz clock output.", 31 SDATA (io) "SMBus compatible SDATA", 32 SCLK (in) "SMBus compatible SCLOCK"
part B pins: 1 VDD (power) "3.3V Power Supply", 2 VSS (power) "Ground", 5 VDD (power) "3.3V Power Supply", 8 VSS (power) "Ground", 9 VSS (power) "Ground", 12 VSS (power) "Ground", 15 VDD (power) "3.3V Power Supply", 17 VDD (power) "3.3V Power Supply", 18 VDD (power) "3.3V Power Supply", 21 VSS (power) "Ground", 24 VDD (power) "3.3V Power Supply", 26 VSS (power) "Ground", 29 VDD (power) "3.3V Power Supply", 33 EP
part C pins: 3 NC "No Connect.", 4 NC "No Connect.", 6 NC "No Connect.", 7 NC "No Connect.", 16 NC "No Connect."

## SL28PCIe25ALI
designator U?
EProClock(R) PCI Express Gen 2 & Gen 3 Generator, 3.3 V, 100 MHz Max Output, -40 to 85 degC, 32-pin QFN; Manufacturer: Silicon Labs; PartNumber: SL28PCIe25ALI; Output Format: LVCMOS; HCSL; Output Frequency (MHz): 25; 100; Reference Inputs: 1; VDD: 3.3 V; Sub-Family: Clock Generators; DatasheetVersion: Rev. AA; PackageReference: QFN-32; PackageDescription: 32-Pin Quad-Flat No-Leads Package, Body 5 x 5 mm, Pitch 0.5 mm; Supplier 1: Digi-Key; Supplier Part Number 1: SL28PCIE25ALI-ND; Supplier 2: Mouser; Supplier Part Number 2: 634-SL28PCIE25ALI; Mounting Technology: Surface Mount; ComponentLink1Description: Manufacturer URL; ComponentLink1URL: http://www.silabs.com/; ComponentLink2Description: Datasheet; ComponentLink2URL: http://www.silabs.com/Support%20Documents/TechnicalDocs/SL28PCIe25.pdf; ComponentLink3Description: Package Specification; ComponentLink3URL: http://www.silabs.com/Support%20Documents/TechnicalDocs/SL28PCIe10.pdf
footprint SLAB-QFN-32-3300x3300TP_B_N (QFN, 32-Leads, Body 5.1x5.1mm, Pitch 0.5mm, Thermal Pad 3.3x3.3mm, IPC Medium Density)
footprint SLAB-QFN-32-3300x3300TP_B_L (QFN, 32-Leads, Body 5.1x5.1mm, Pitch 0.5mm, Thermal Pad 3.3x3.3mm, IPC High Density)
footprint SLAB-QFN-32-3300x3300TP_B_M (QFN, 32-Leads, Body 5.1x5.1mm, Pitch 0.5mm, Thermal Pad 3.3x3.3mm, IPC Low Density)
part A pins: 10 SRC0 (hiz) "100MHz True differential serial reference clock", 11 SRC0# (hiz) "100MHz Complement differential serial reference clock", 13 SRC1 (hiz) "100MHz True differential serial reference clock", 14 SRC1# (hiz) "100MHz Complement differential serial reference clock", 19 SRC2# (hiz) "100MHz Complement differential serial reference clock", 20 SRC2 (hiz) "100MHz True differential serial reference clock", 22 SRC3# (hiz) "100MHz Complement differential serial reference clock", 23 SRC3 (hiz) "100MHz True differential serial reference clock", 25 CKPWRGD/PD# (in) "3.3V LVTTL input pin. When PD# is asserted low, the device will power down.", 27 XOUT "25MHz Crystal output, Float XOUT if using CLKIN (Clock Input)", 28 XIN/CLKIN (in) "25MHz Crystal input or 3.3V, 25MHz Clock input", 30 REF (out) "3.3V, 25MHz clock output.", 31 SDATA (io) "SMBus compatible SDATA", 32 SCLK (in) "SMBus compatible SCLOCK"
part B pins: 1 VDD (power) "3.3V Power Supply", 2 VSS (power) "Ground", 5 VDD (power) "3.3V Power Supply", 8 VSS (power) "Ground", 9 VSS (power) "Ground", 12 VSS (power) "Ground", 15 VDD (power) "3.3V Power Supply", 17 VDD (power) "3.3V Power Supply", 18 VDD (power) "3.3V Power Supply", 21 VSS (power) "Ground", 24 VDD (power) "3.3V Power Supply", 26 VSS (power) "Ground", 29 VDD (power) "3.3V Power Supply", 33 EP
part C pins: 3 NC "No Connect.", 4 NC "No Connect.", 6 NC "No Connect.", 7 NC "No Connect.", 16 NC "No Connect."

## SL28PCIe25ALIT
designator U?
EProClock(R) PCI Express Gen 2 & Gen 3 Generator, 3.3 V, 100 MHz Max Output, -40 to 85 degC, 32-pin QFN, Tape and Reel; Manufacturer: Silicon Labs; PartNumber: SL28PCIe25ALIT; Output Format: LVCMOS; HCSL; Output Frequency (MHz): 25; 100; Phase Jitter (RMS): 3.1 ps; Reference Inputs: 1; VDD: 3.3 V; Sub-Family: Clock Generators; DatasheetVersion: Rev. AA; PackageReference: QFN-32; PackageDescription: 32-Pin Quad-Flat No-Leads Package, Body 5 x 5 mm, Pitch 0.5 mm; Supplier 1: Digi-Key; Supplier Part Number 1: SL28PCIE25ALIT-ND; Supplier 2: Mouser; Supplier Part Number 2: 634-SL28PCIE25ALIT; Packing: Tape and Reel; Mounting Technology: Surface Mount; ComponentLink1Description: Manufacturer URL; ComponentLink1URL: http://www.silabs.com/; ComponentLink2Description: Datasheet; ComponentLink2URL: http://www.silabs.com/Support%20Documents/TechnicalDocs/SL28PCIe25.pdf; ComponentLink3Description: Package Specification; ComponentLink3URL: http://www.silabs.com/Support%20Documents/TechnicalDocs/SL28PCIe10.pdf
footprint SLAB-QFN-32-3300x3300TP_B_N (QFN, 32-Leads, Body 5.1x5.1mm, Pitch 0.5mm, Thermal Pad 3.3x3.3mm, IPC Medium Density)
footprint SLAB-QFN-32-3300x3300TP_B_L (QFN, 32-Leads, Body 5.1x5.1mm, Pitch 0.5mm, Thermal Pad 3.3x3.3mm, IPC High Density)
footprint SLAB-QFN-32-3300x3300TP_B_M (QFN, 32-Leads, Body 5.1x5.1mm, Pitch 0.5mm, Thermal Pad 3.3x3.3mm, IPC Low Density)
part A pins: 10 SRC0 (hiz) "100MHz True differential serial reference clock", 11 SRC0# (hiz) "100MHz Complement differential serial reference clock", 13 SRC1 (hiz) "100MHz True differential serial reference clock", 14 SRC1# (hiz) "100MHz Complement differential serial reference clock", 19 SRC2# (hiz) "100MHz Complement differential serial reference clock", 20 SRC2 (hiz) "100MHz True differential serial reference clock", 22 SRC3# (hiz) "100MHz Complement differential serial reference clock", 23 SRC3 (hiz) "100MHz True differential serial reference clock", 25 CKPWRGD/PD# (in) "3.3V LVTTL input pin. When PD# is asserted low, the device will power down.", 27 XOUT "25MHz Crystal output, Float XOUT if using CLKIN (Clock Input)", 28 XIN/CLKIN (in) "25MHz Crystal input or 3.3V, 25MHz Clock input", 30 REF (out) "3.3V, 25MHz clock output.", 31 SDATA (io) "SMBus compatible SDATA", 32 SCLK (in) "SMBus compatible SCLOCK"
part B pins: 1 VDD (power) "3.3V Power Supply", 2 VSS (power) "Ground", 5 VDD (power) "3.3V Power Supply", 8 VSS (power) "Ground", 9 VSS (power) "Ground", 12 VSS (power) "Ground", 15 VDD (power) "3.3V Power Supply", 17 VDD (power) "3.3V Power Supply", 18 VDD (power) "3.3V Power Supply", 21 VSS (power) "Ground", 24 VDD (power) "3.3V Power Supply", 26 VSS (power) "Ground", 29 VDD (power) "3.3V Power Supply", 33 EP
part C pins: 3 NC "No Connect.", 4 NC "No Connect.", 6 NC "No Connect.", 7 NC "No Connect.", 16 NC "No Connect."

## SL28PCIe26ALC
designator U?
EProClock(R) PCI Express Gen 2 & Gen 3 Generator, 3.3 V, 100 MHz Output, 0 to 85 degC, 32-pin QFN; Manufacturer: Silicon Labs; PartNumber: SL28PCIe26ALC; Output Format: HCSL; Output Frequency (MHz): 100; Reference Inputs: 1; VDD: 3.3 V; Sub-Family: Clock Generators; DatasheetVersion: Rev. AA; PackageReference: QFN-32; PackageDescription: 32-Pin Quad-Flat No-Leads Package, Body 5 x 5 mm, Pitch 0.5 mm; Supplier 1: Digi-Key; Supplier Part Number 1: SL28PCIE26ALC-ND; Supplier 2: Mouser; Supplier Part Number 2: 634-SL28PCIE26ALC; Mounting Technology: Surface Mount; ComponentLink1Description: Manufacturer URL; ComponentLink1URL: http://www.silabs.com/; ComponentLink2Description: Datasheet; ComponentLink2URL: http://www.silabs.com/Support%20Documents/TechnicalDocs/SL28PCIe26.pdf; ComponentLink3Description: Package Specification; ComponentLink3URL: http://www.silabs.com/Support%20Documents/TechnicalDocs/SL28PCIe10.pdf
footprint SLAB-QFN-32-3300x3300TP_B_N (QFN, 32-Leads, Body 5.1x5.1mm, Pitch 0.5mm, Thermal Pad 3.3x3.3mm, IPC Medium Density)
footprint SLAB-QFN-32-3300x3300TP_B_L (QFN, 32-Leads, Body 5.1x5.1mm, Pitch 0.5mm, Thermal Pad 3.3x3.3mm, IPC High Density)
footprint SLAB-QFN-32-3300x3300TP_B_M (QFN, 32-Leads, Body 5.1x5.1mm, Pitch 0.5mm, Thermal Pad 3.3x3.3mm, IPC Low Density)
part A pins: 10 SRC0 (hiz) "100MHz True differential serial reference clock", 11 SRC0# (hiz) "100MHz Complement differential serial reference clock", 13 SRC1 (hiz) "100MHz True differential serial reference clock", 14 SRC1# (hiz) "100MHz Complement differential serial reference clock", 19 SRC2# (hiz) "100MHz Complement differential serial reference clock", 20 SRC2 (hiz) "100MHz True differential serial reference clock", 22 SRC3# (hiz) "100MHz Complement differential serial reference clock", 23 SRC3 (hiz) "100MHz True differential serial reference clock", 25 CKPWRGD/PD# (in) "3.3V LVTTT input pin. When PD# is asserted low, the device will power down.", 27 XOUT "25MHz Crystal output, Float XOUT if using CLKIN (Clock Input)", 28 XIN/CLKIN (in) "25MHz Crystal input or 3.3V, 25MHz Clock Input", 31 SDATA (io) "SMBus compatible SDATA", 32 SCLK (in) "SMBus compatible SCLOCK"
part B pins: 1 VDD (power) "3.3V Power Supply", 2 VSS (power) "Ground", 5 VDD (power) "3.3V Power Supply", 8 VSS (power) "Ground", 9 VSS (power) "Ground", 12 VSS (power) "Ground", 15 VDD (power) "3.3V Power Supply", 17 VDD (power) "3.3V Power Supply", 18 VDD (power) "3.3V Power Supply", 21 VSS (power) "Ground", 24 VDD (power) "3.3V Power Supply", 26 VSS (power) "Ground", 29 VDD (power) "3.3V Power Supply", 33 EP
part C pins: 3 NC "No Connect.", 4 NC "No Connect.", 6 NC "No Connect.", 7 NC "No Connect.", 16 NC "No Connect.", 30 NC "No Connect."

## SL28PCIe26ALCT
designator U?
EProClock(R) PCI Express Gen 2 & Gen 3 Generator, 3.3 V, 100 MHz Output, 0 to 85 degC, 32-pin QFN, Tape and Reel; Manufacturer: Silicon Labs; PartNumber: SL28PCIe26ALCT; Output Format: HCSL; Output Frequency (MHz): 100; Phase Jitter (RMS): 3.1 ps; Reference Inputs: 1; VDD: 3.3 V; Sub-Family: Clock Generators; DatasheetVersion: Rev. AA; PackageReference: QFN-32; PackageDescription: 32-Pin Quad-Flat No-Leads Package, Body 5 x 5 mm, Pitch 0.5 mm; Supplier 1: Digi-Key; Supplier Part Number 1: SL28PCIE26ALCT-ND; Supplier 2: Mouser; Supplier Part Number 2: 634-SL28PCIE26ALCT; Packing: Tape and Reel; Mounting Technology: Surface Mount; ComponentLink1Description: Manufacturer URL; ComponentLink1URL: http://www.silabs.com/; ComponentLink2Description: Datasheet; ComponentLink2URL: http://www.silabs.com/Support%20Documents/TechnicalDocs/SL28PCIe26.pdf; ComponentLink3Description: Package Specification; ComponentLink3URL: http://www.silabs.com/Support%20Documents/TechnicalDocs/SL28PCIe10.pdf
footprint SLAB-QFN-32-3300x3300TP_B_N (QFN, 32-Leads, Body 5.1x5.1mm, Pitch 0.5mm, Thermal Pad 3.3x3.3mm, IPC Medium Density)
footprint SLAB-QFN-32-3300x3300TP_B_L (QFN, 32-Leads, Body 5.1x5.1mm, Pitch 0.5mm, Thermal Pad 3.3x3.3mm, IPC High Density)
footprint SLAB-QFN-32-3300x3300TP_B_M (QFN, 32-Leads, Body 5.1x5.1mm, Pitch 0.5mm, Thermal Pad 3.3x3.3mm, IPC Low Density)
part A pins: 10 SRC0 (hiz) "100MHz True differential serial reference clock", 11 SRC0# (hiz) "100MHz Complement differential serial reference clock", 13 SRC1 (hiz) "100MHz True differential serial reference clock", 14 SRC1# (hiz) "100MHz Complement differential serial reference clock", 19 SRC2# (hiz) "100MHz Complement differential serial reference clock", 20 SRC2 (hiz) "100MHz True differential serial reference clock", 22 SRC3# (hiz) "100MHz Complement differential serial reference clock", 23 SRC3 (hiz) "100MHz True differential serial reference clock", 25 CKPWRGD/PD# (in) "3.3V LVTTT input pin. When PD# is asserted low, the device will power down.", 27 XOUT "25MHz Crystal output, Float XOUT if using CLKIN (Clock Input)", 28 XIN/CLKIN (in) "25MHz Crystal input or 3.3V, 25MHz Clock Input", 31 SDATA (io) "SMBus compatible SDATA", 32 SCLK (in) "SMBus compatible SCLOCK"
part B pins: 1 VDD (power) "3.3V Power Supply", 2 VSS (power) "Ground", 5 VDD (power) "3.3V Power Supply", 8 VSS (power) "Ground", 9 VSS (power) "Ground", 12 VSS (power) "Ground", 15 VDD (power) "3.3V Power Supply", 17 VDD (power) "3.3V Power Supply", 18 VDD (power) "3.3V Power Supply", 21 VSS (power) "Ground", 24 VDD (power) "3.3V Power Supply", 26 VSS (power) "Ground", 29 VDD (power) "3.3V Power Supply", 33 EP
part C pins: 3 NC "No Connect.", 4 NC "No Connect.", 6 NC "No Connect.", 7 NC "No Connect.", 16 NC "No Connect.", 30 NC "No Connect."